# Altium schematic symbol library R 2512 1% YAGEO.SchLib: 9 symbols
Pins are listed as number, name and electrical type; pins without a type are passive.

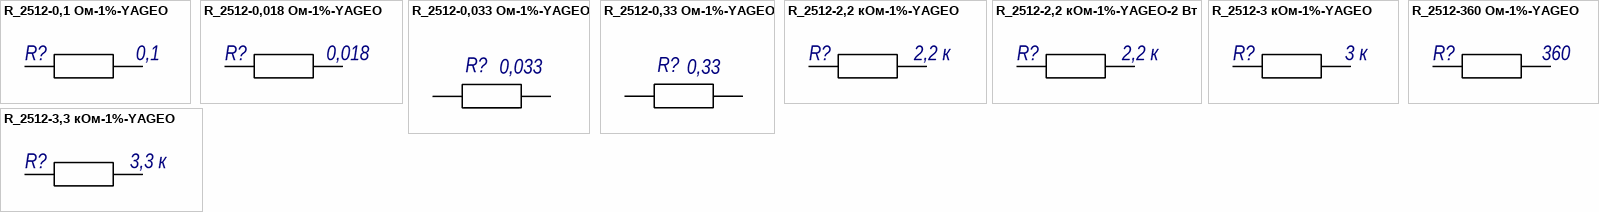
[diagram p0: symbols R_2512-0,1 Ом-1%-YAGEO to R_2512-360 Ом-1%-YAGEO]

## R_2512-0,1 Ом-1%-YAGEO
designator R?, comment value 0,1  (hidden comment: Резистор чип 2512-1 Вт-0,1 Ом ±1% фирма "YAGEO")
чип 2512-1 Вт-0,1 Ом ±1% фирма "YAGEO"; Power: 1 Вт; Tol: ± 1%; Manufacturer: фирма "YAGEO"; Name: Резистор; TYP: чип 2512; GOST: Резистор чип 2512-1 Вт-0,1 Ом ±1% фирма "YAGEO"
footprint R2512_H06M (Dim 6.3mm*3.3mm H=0.6mm)
pins: 1, 2
1 alternate drawing of the same symbol

## R_2512-0,018 Ом-1%-YAGEO
designator R?, comment value 0,018  (hidden comment: Резистор чип 2512-1 Вт-0,018 Ом ±1% фирма "YAGEO")
чип 2512-1 Вт-0,018 Ом ±1% фирма "YAGEO"; PartNumber: RL2512FK-070R018L; Power: 1 Вт; Tol: ± 1%; Manufacturer: фирма "YAGEO"; Name: Резистор; TYP: чип 2512; GOST: Резистор чип 2512-1 Вт-0,018 Ом ±1% фирма "YAGEO"
footprint R2512_H06M (Dim 6.3mm*3.3mm H=0.6mm)
pins: 1, 2
1 alternate drawing of the same symbol

## R_2512-0,033 Ом-1%-YAGEO
designator R?, comment value 0,033  (hidden comment: Резистор чип 2512-1 Вт-0,033 Ом ±1% фирма "YAGEO")
чип 2512-1 Вт- 0,033 Ом ±1% фирма "YAGEO"; Manufacturer: Yageo; PartNumber: RL2512FK-070R033L; Tc: 800 ppm/°C; Tol: ±1%; GOST: Резистор чип 2512-1 Вт-0,033 Ом ±1% фирма "YAGEO"
footprint R2512_H06M (Dim 6.3mm*3.3mm H=0.6mm)
pins: 1, 2
1 alternate drawing of the same symbol

## R_2512-0,33 Ом-1%-YAGEO
designator R?, comment value 0,33  (hidden comment: Резистор чип 2512-1 Вт-0,33 Ом ±1% фирма "YAGEO")
чип 2512-1 Вт- 0,33 Ом ±1% фирма "YAGEO"; Manufacturer: Yageo; PartNumber: RL2512FK-070R33L; Tc: 800 ppm/°C; Tol: ±1%; GOST: Резистор чип 2512-1 Вт-0,33 Ом ±1% фирма "YAGEO"
footprint R2512_H06M (Dim 6.3mm*3.3mm H=0.6mm)
pins: 1, 2
1 alternate drawing of the same symbol

## R_2512-2,2 кОм-1%-YAGEO
designator R?, comment value 2,2 к  (hidden comment: Резистор чип 2512-1 Вт-2,2 кОм ±1% фирма "YAGEO")
чип 2512-1 Вт-2,2 кОм ±1% фирма "YAGEO"; Power: 1 Вт; Tol: ± 1%; Manufacturer: фирма "YAGEO"; Name: Резистор; TYP: чип 2512; GOST: Резистор чип 2512-1 Вт-2,2 кОм ±1% фирма "YAGEO"
footprint R2512_H06M (Dim 6.3mm*3.3mm H=0.6mm)
pins: 1, 2
1 alternate drawing of the same symbol

## R_2512-2,2 кОм-1%-YAGEO-2 Вт
designator R?, comment value 2,2 к  (hidden comment: Резистор чип 2512-2 Вт-2,2 кОм ±1% SR2512FK-7W2K2L фирма "YAGEO")
чип 2512-2 Вт-2,2 кОм ±1% фирма "YAGEO"; Power: 2 Вт; Tol: ± 1%; Manufacturer: фирма "YAGEO"; PartNumber: SR2512FK-7W2K2L; Name: Резистор; TYP: чип 2512; GOST: Резистор чип 2512-2 Вт-2,2 кОм ±1% SR2512FK-7W2K2L фирма "YAGEO"
footprint R2512_H06M (Dim 6.3mm*3.3mm H=0.6mm)
pins: 1, 2
1 alternate drawing of the same symbol

## R_2512-3 кОм-1%-YAGEO
designator R?, comment value 3 к  (hidden comment: Резистор чип 2512-1 Вт-3 кОм ±1% фирма "YAGEO")
чип 2512-1 Вт-3 кОм ±1% фирма "YAGEO"; PartNumber: RC2512FK-073KL; Power: 1 Вт; Tol: ± 1%; Manufacturer: фирма "YAGEO"; Name: Резистор; TYP: чип 2512; GOST: Резистор чип 2512-1 Вт-3 кОм ±1% фирма "YAGEO"
footprint R2512_H06M (Dim 6.3mm*3.3mm H=0.6mm)
pins: 1, 2
1 alternate drawing of the same symbol

## R_2512-3,3 кОм-1%-YAGEO
designator R?, comment value 3,3 к  (hidden comment: Резистор чип 2512-1 Вт-3,3 кОм ±1% фирма "YAGEO")
чип 2512-1 Вт-3,3 кОм ±1% фирма "YAGEO"; Power: 1 Вт; Tol: ± 1%; Manufacturer: фирма "YAGEO"; Name: Резистор; TYP: чип 2512; GOST: Резистор чип 2512-1 Вт-3,3 кОм ±1% фирма "YAGEO"
footprint R2512_H06M (Dim 6.3mm*3.3mm H=0.6mm)
pins: 1, 2
1 alternate drawing of the same symbol

## R_2512-360 Ом-1%-YAGEO
designator R?, comment value 360  (hidden comment: Резистор чип 2512-1 Вт-360 Ом ±1% фирма "YAGEO")
чип 2512-1 Вт-360 Ом ±1% фирма "YAGEO"; Power: 1 Вт; Tol: ± 1%; Manufacturer: фирма "YAGEO"; Name: Резистор; TYP: чип 2512; GOST: Резистор чип 2512-1 Вт-360 Ом ±1% фирма "YAGEO"
footprint R2512_H06M (Dim 6.3mm*3.3mm H=0.6mm)
pins: 1, 2
1 alternate drawing of the same symbol